# EAGLE library part DAC8551 (library afc-smm)
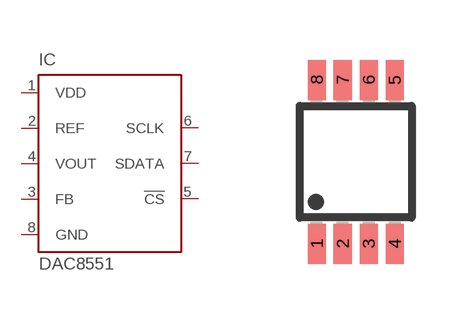
[diagram p2: symbol with the pads of MSOP8; footprint MSOP8]

Designator prefix IC

## DAC8551  [MSOP8]
1  VDD  pwr
2  REF  pwr
3  FB  pas
4  VOUT  pas
5  !CS  in
6  SCLK  in
7  SDATA  in
8  GND  pwr

## Footprint MSOP8 (pad centres in mm)
Micro Small Outline Package Grid .65mm
smd 0.45 x 1: 1 -0.975,-2.05; 2 -0.325,-2.05; 3 0.325,-2.05; 4 0.975,-2.05; 5 0.975,2.05; 6 0.325,2.05; 7 -0.325,2.05; 8 -0.975,2.05